# Altium integrated library Altium_WP-BUTR+(rev22b).IntLib: 6 symbols
Pins are listed as number, name and electrical type; pins without a type are passive.

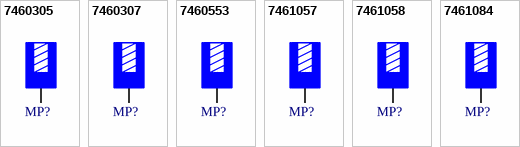
[diagram p0: symbols 7460305 to 7461084]

## 7460305
designator MP?, comment M5 x 6mm  (value not drawn)
WP-BUTR REDCUBE PRESS-FIT with internal thread, two-rows, L9W9H7mm, M5 x 6mm, 160A; Manufacturer Part Number: 7460305; Manufacturer: Wurth Elektronik; Surface: Tin; ComponentLink1Description: Website Link; ComponentLink1URL: https://www.we-online.com/redexpert/article/7460305?ad; ComponentLink2Description: Datasheet Link; ComponentLink2URL: https://www.we-online.com/redexpert/spec/7460305?ad; Category: REDCUBE PRESS-FIT; Match Code: WP-BUTR; Mount: Press Fit; Operating Temperature Max: 150°C; Operating Temperature Min: -55°C; Packaging: Bulk; Length: 9mm; Width: 9mm; Height: 7mm; Material: Brass; Number of Pins: 8; Rated Current: 160A; Thread Length: 6mm; Thread Size: M5
footprint 7460305_chemical surface
footprint 7460305_HAL
pins: 1

## 7460307
designator MP?, comment M4 x 6mm  (value not drawn)
WP-BUTR REDCUBE PRESS-FIT with internal thread, two-rows, L9W9H7mm, M4 x 6mm, 160A; Manufacturer Part Number: 7460307; Manufacturer: Wurth Elektronik; Surface: Tin; ComponentLink1Description: Website Link; ComponentLink1URL: https://www.we-online.com/redexpert/article/7460307?ad; ComponentLink2Description: Datasheet Link; ComponentLink2URL: https://www.we-online.com/redexpert/spec/7460307?ad; Category: REDCUBE PRESS-FIT; Match Code: WP-BUTR; Mount: Press Fit; Operating Temperature Max: 150°C; Operating Temperature Min: -55°C; Packaging: Bulk; Length: 9mm; Width: 9mm; Height: 7mm; Material: Brass; Number of Pins: 8; Rated Current: 160A; Thread Length: 6mm; Thread Size: M4
footprint 7460307_chemical surface
footprint 7460307_HAL
pins: 1

## 7460553
designator MP?, comment M8 x 10mm  (value not drawn)
WP-BUTR REDCUBE PRESS-FIT with internal thread, two-rows, L13W13H13.5mm, M8 x 10mm, 240A; Manufacturer Part Number: 7460553; Manufacturer: Wurth Elektronik; Surface: Tin; ComponentLink1Description: Website Link; ComponentLink1URL: https://www.we-online.com/redexpert/article/7460553?ad; ComponentLink2Description: Datasheet Link; ComponentLink2URL: https://www.we-online.com/redexpert/spec/7460553?ad; Category: REDCUBE PRESS-FIT; Match Code: WP-BUTR; Mount: Press Fit; Operating Temperature Max: 150°C; Operating Temperature Min: -55°C; Packaging: Bulk; Length: 13mm; Width: 13mm; Height: 13.5mm; Material: Brass; Number of Pins: 10; Rated Current: 240A; Thread Length: 10mm; Thread Size: M8
footprint 7460553_chemical surface
footprint 7460553_HAL
pins: 1

## 7461057
designator MP?, comment M3 x 5mm  (value not drawn)
WP-BUTR REDCUBE PRESS-FIT with internal thread, two-rows, L7W7H6mm, M3 x 5mm, 100A; Manufacturer Part Number: 7461057; Manufacturer: Wurth Elektronik; Surface: Tin; ComponentLink1Description: Website Link; ComponentLink1URL: https://www.we-online.com/redexpert/article/7461057?ad; ComponentLink2Description: Datasheet Link; ComponentLink2URL: https://www.we-online.com/redexpert/spec/7461057?ad; Category: REDCUBE PRESS-FIT; Match Code: WP-BUTR; Mount: Press Fit; Operating Temperature Max: 150°C; Operating Temperature Min: -55°C; Packaging: Bulk; Length: 7mm; Width: 7mm; Height: 6mm; Material: Brass; Number of Pins: 6; Rated Current: 100A; Thread Length: 5mm; Thread Size: M3
footprint 7461057_chemical surface
footprint 7461057_HAL
pins: 1

## 7461058
designator MP?, comment M10 x 11mm  (value not drawn)
WP-BUTR REDCUBE PRESS-FIT with internal thread, two-rows, L16W16H17.5mm, M10 x 11mm, 320A; Manufacturer Part Number: 7461058; Manufacturer: Wurth Elektronik; Surface: Tin; ComponentLink1Description: Website Link; ComponentLink1URL: https://www.we-online.com/redexpert/article/7461058?ad; ComponentLink2Description: Datasheet Link; ComponentLink2URL: https://www.we-online.com/redexpert/spec/7461058?ad; Category: REDCUBE PRESS-FIT; Match Code: WP-BUTR; Mount: Press Fit; Operating Temperature Max: 150°C; Operating Temperature Min: -55°C; Packaging: Bulk; Length: 16mm; Width: 16mm; Height: 17.5mm; Material: Brass; Number of Pins: 12; Rated Current: 320A; Thread Length: 11mm; Thread Size: M10
footprint 7461058_chemical surface
footprint 7461058_HAL
pins: 1

## 7461084
designator MP?, comment M6 x 9mm  (value not drawn)
WP-BUTR REDCUBE PRESS-FIT with internal thread, two-rows, L10W10H13.5mm, M6 x 9mm, 160A; Manufacturer Part Number: 7461084; Manufacturer: Wurth Elektronik; Surface: Tin; ComponentLink1Description: Website Link; ComponentLink1URL: https://www.we-online.com/redexpert/article/7461084?ad; ComponentLink2Description: Datasheet Link; ComponentLink2URL: https://www.we-online.com/redexpert/spec/7461084?ad; Category: REDCUBE PRESS-FIT; Match Code: WP-BUTR; Mount: Press Fit; Operating Temperature Max: 150°C; Operating Temperature Min: -55°C; Packaging: Bulk; Length: 10mm; Width: 10mm; Height: 13.5mm; Material: Brass; Number of Pins: 8; Rated Current: 160A; Thread Length: 9mm; Thread Size: M6
footprint 7461084_chemical surface
footprint 7461084_HAL
pins: 1